# Altium footprint library J0G-0003NL.PcbLib: 1 footprints
Each footprint in its own frame and in the unit in brackets; x right, y up, seen from the top. Pads: shape width x height; smd on the part's side, far side on the other; paste and mask are expansions set on the pad; w line width, h text height; cw(c..) or ccw(c..) is an arc to the next point about the centre after c.
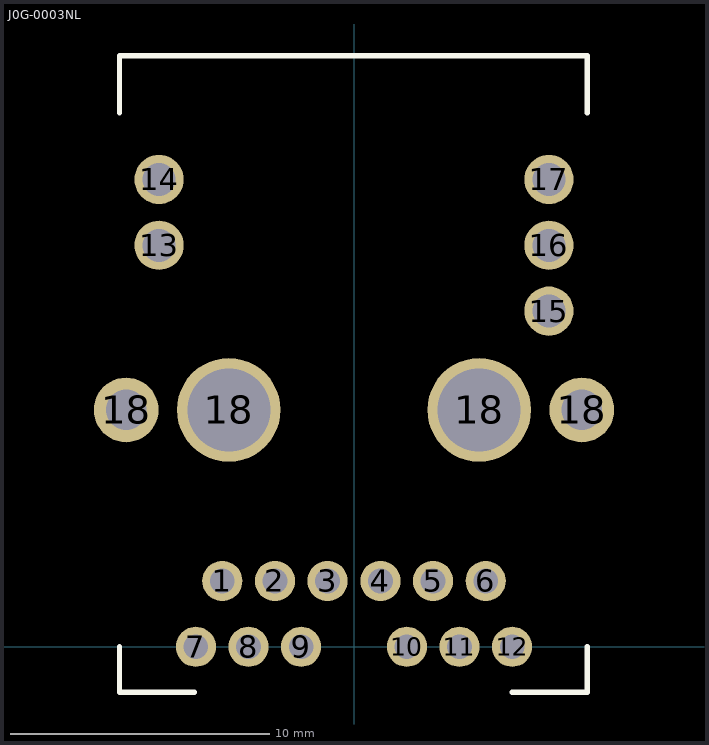
[diagram p0: the footprint, top view; thin cyan lines are the x and y axes]

## J0G-0003NL [mm] "RJ45 Mag-Jack"
pads (21):
  round 1.55 hole 0.95: 1(-5.08,2.54) 2(-3.05,2.54) 3(-1.02,2.54) 4(1.02,2.54) 5(3.05,2.54) 6(5.08,2.54) 7(-6.1,0) 8(-4.07,0) 9(-2.04,0) 10(2.04,0) 11(4.07,0) 12(6.1,0)
  round 1.9 hole 1.27: 13(-7.52,15.49) 14(-7.52,18.03) 15(7.52,12.95) 16(7.52,15.49) 17(7.52,18.03)
  round 2.5 hole 1.57: 18(-8.79,9.14) 18(8.79,9.14)
  round 4 hole 3.2: 18(-4.83,9.14) 18(4.83,9.14)
Top Overlay:
  lines w0.2: -9.05,0 -9.05,-1.75 -6.15,-1.75 ; -9.05,20.6 -9.05,22.8 9,22.8 9,20.6 ; 6.1,-1.75 9,-1.75 9,0
3D body "J0G-0003NL_3D.STEP": height 11.05, standoff -3.81, extent -9.017,-1.765 9.017,22.788